# Altium schematic symbol library TI WEBENCH.SchLib: 92 symbols
Pins are listed as number, name and electrical type; pins without a type are passive.

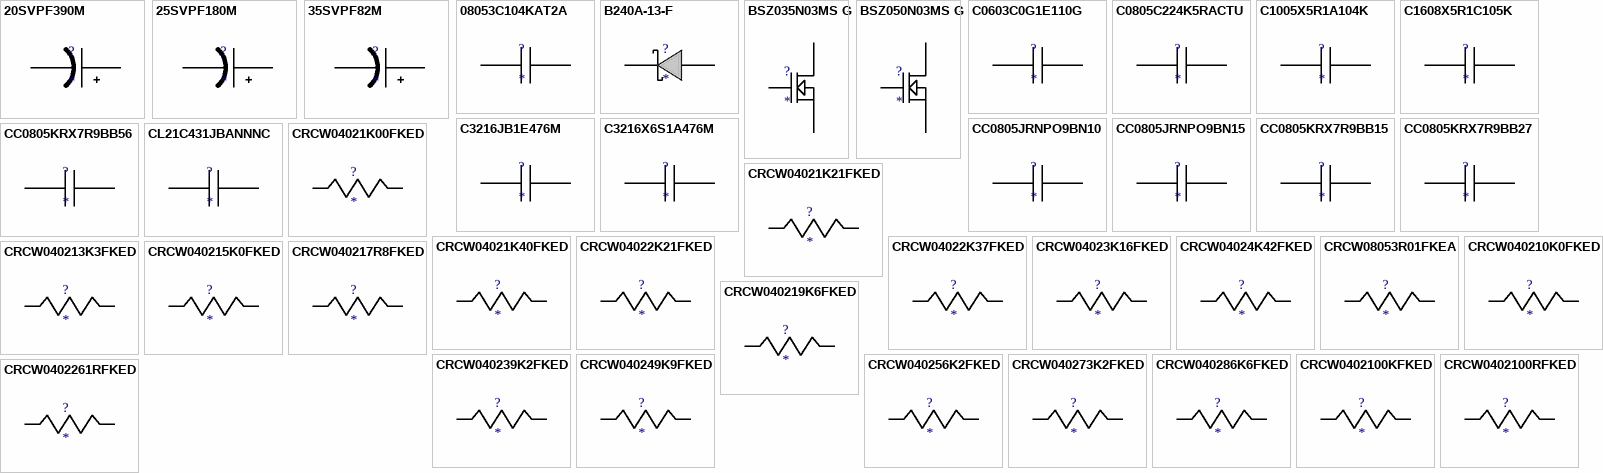
[diagram p0: symbols 20SVPF390M to CRCW0402261RFKED]

## 20SVPF390M
designator ?
Imported; Manufacturer_Part_Number: 20SVPF390M; Vendor: Panasonic; Manufacturer_Name: Panasonic; RefDes: RefDes; TYPE: TYPE; Value: Value
footprint CAPSMT_62_E12
pins: 1 +, 2 -

## 25SVPF180M
designator ?
Imported; Manufacturer_Part_Number: 25SVPF180M; Vendor: Panasonic; Manufacturer_Name: Panasonic; RefDes: RefDes; TYPE: TYPE; Value: Value
footprint CAPSMT_62_E12
pins: 1 +, 2 -

## 35SVPF82M
designator ?
Imported; Manufacturer_Part_Number: 35SVPF82M; Vendor: Panasonic; Manufacturer_Name: Panasonic; RefDes: RefDes; TYPE: TYPE; Value: Value
footprint CAPSMT_62_E12
pins: 1 +, 2 -

## 08053C104KAT2A
designator ?
Imported; Manufacturer_Part_Number: 08053C104KAT2A; Vendor: AVX; Manufacturer_Name: AVX; RefDes: RefDes; TYPE: TYPE; Value: Value
footprint 0805
pins: 1, 2

## B240A-13-F
designator ?
Imported; Manufacturer_Part_Number: B240A-13-F; Vendor: Diodes Inc.; Manufacturer_Name: Diodes Inc.; RefDes: RefDes; Type: Type; Value: Value
footprint SMA
pins: 1 K, 2 A

## BSZ035N03MS G
designator ?
Imported; Manufacturer_Part_Number: BSZ035N03MS G; Vendor: Infineon Technologies; Manufacturer_Name: Infineon Technologies; RefDes: RefDes; TYPE: TYPE; Value: Value
footprint PG-TSDSON-8
pins: 1 Source, 2 Source, 3 Source, 4 Gate, 5 Drain, 6 Drain, 7 Drain, 8 Drain, 9 Drain

## BSZ050N03MS G
designator ?
Imported; Manufacturer_Part_Number: BSZ050N03MS G; Vendor: Infineon Technologies; Manufacturer_Name: Infineon Technologies; RefDes: RefDes; TYPE: TYPE; Value: Value
footprint PG-TSDSON-8
pins: 1 Source, 2 Source, 3 Source, 4 Gate, 5 Drain, 6 Drain, 7 Drain, 8 Drain, 9 Drain

## C0603C0G1E110G
designator ?
Imported; Manufacturer_Part_Number: C0603C0G1E110G; Vendor: TDK; Manufacturer_Name: TDK; RefDes: RefDes; TYPE: TYPE; Value: Value
footprint 0201
pins: 1, 2

## C0805C224K5RACTU
designator ?
Imported; Manufacturer_Part_Number: C0805C224K5RACTU; Vendor: Kemet; Manufacturer_Name: Kemet; RefDes: RefDes; TYPE: TYPE; Value: Value
footprint 0805
pins: 1, 2

## C1005X5R1A104K
designator ?
Imported; Manufacturer_Part_Number: C1005X5R1A104K; Vendor: TDK; Manufacturer_Name: TDK; RefDes: RefDes; TYPE: TYPE; Value: Value
footprint 1005
pins: 1, 2

## C1608X5R1C105K
designator ?
Imported; Manufacturer_Part_Number: C1608X5R1C105K; Vendor: TDK; Manufacturer_Name: TDK; RefDes: RefDes; TYPE: TYPE; Value: Value
footprint 1608
pins: 1, 2

## C3216JB1E476M
designator ?
Imported; Manufacturer_Part_Number: C3216JB1E476M; Vendor: TDK; Manufacturer_Name: TDK; RefDes: RefDes; TYPE: TYPE; Value: Value
footprint 1206
pins: 1, 2

## C3216X6S1A476M
designator ?
Imported; Manufacturer_Part_Number: C3216X6S1A476M; Vendor: TDK; Manufacturer_Name: TDK; RefDes: RefDes; TYPE: TYPE; Value: Value
footprint 1206
pins: 1, 2

## CC0805JRNPO9BN10
designator ?
Imported; Manufacturer_Part_Number: CC0805JRNPO9BN101; Vendor: Yageo America; Manufacturer_Name: Yageo America; RefDes: RefDes; TYPE: TYPE; Value: Value
footprint 0805
pins: 1, 2

## CC0805JRNPO9BN15
designator ?
Imported; Manufacturer_Part_Number: CC0805JRNPO9BN151; Vendor: Yageo America; Manufacturer_Name: Yageo America; RefDes: RefDes; TYPE: TYPE; Value: Value
footprint 0805
pins: 1, 2

## CC0805KRX7R9BB15
designator ?
Imported; Manufacturer_Part_Number: CC0805KRX7R9BB153; Vendor: Yageo America; Manufacturer_Name: Yageo America; RefDes: RefDes; TYPE: TYPE; Value: Value
footprint 0805
pins: 1, 2

## CC0805KRX7R9BB27
designator ?
Imported; Manufacturer_Part_Number: CC0805KRX7R9BB272; Vendor: Yageo America; Manufacturer_Name: Yageo America; RefDes: RefDes; TYPE: TYPE; Value: Value
footprint 0805
pins: 1, 2

## CC0805KRX7R9BB56
designator ?
Imported; Manufacturer_Part_Number: CC0805KRX7R9BB561; Vendor: Yageo America; Manufacturer_Name: Yageo America; RefDes: RefDes; TYPE: TYPE; Value: Value
footprint 0805
pins: 1, 2

## CL21C431JBANNNC
designator ?
Imported; Manufacturer_Part_Number: CL21C431JBANNNC; Vendor: Samsung Electro-Mechanics; Manufacturer_Name: Samsung Electro-Mechanics; RefDes: RefDes; TYPE: TYPE; Value: Value
footprint 0805
pins: 1, 2

## CRCW04021K00FKED
designator ?
Imported; Manufacturer_Part_Number: CRCW04021K00FKED; Vendor: Vishay-Dale; Manufacturer_Name: Vishay-Dale; RefDes: RefDes; TYPE: TYPE; Value: Value
footprint 0402
pins: 1, 2

## CRCW04021K21FKED
designator ?
Imported; Manufacturer_Part_Number: CRCW04021K21FKED; Vendor: Vishay-Dale; Manufacturer_Name: Vishay-Dale; RefDes: RefDes; TYPE: TYPE; Value: Value
footprint 0402
pins: 1, 2

## CRCW04021K40FKED
designator ?
Imported; Manufacturer_Part_Number: CRCW04021K40FKED; Vendor: Vishay-Dale; Manufacturer_Name: Vishay-Dale; RefDes: RefDes; TYPE: TYPE; Value: Value
footprint 0402
pins: 1, 2

## CRCW04022K21FKED
designator ?
Imported; Manufacturer_Part_Number: CRCW04022K21FKED; Vendor: Vishay-Dale; Manufacturer_Name: Vishay-Dale; RefDes: RefDes; TYPE: TYPE; Value: Value
footprint 0402
pins: 1, 2

## CRCW04022K37FKED
designator ?
Imported; Manufacturer_Part_Number: CRCW04022K37FKED; Vendor: Vishay-Dale; Manufacturer_Name: Vishay-Dale; RefDes: RefDes; TYPE: TYPE; Value: Value
footprint 0402
pins: 1, 2

## CRCW04023K16FKED
designator ?
Imported; Manufacturer_Part_Number: CRCW04023K16FKED; Vendor: Vishay-Dale; Manufacturer_Name: Vishay-Dale; RefDes: RefDes; TYPE: TYPE; Value: Value
footprint 0402
pins: 1, 2

## CRCW04024K42FKED
designator ?
Imported; Manufacturer_Part_Number: CRCW04024K42FKED; Vendor: Vishay-Dale; Manufacturer_Name: Vishay-Dale; RefDes: RefDes; TYPE: TYPE; Value: Value
footprint 0402
pins: 1, 2

## CRCW08053R01FKEA
designator ?
Imported; Manufacturer_Part_Number: CRCW08053R01FKEA; Vendor: Vishay-Dale; Manufacturer_Name: Vishay-Dale; RefDes: RefDes; TYPE: TYPE; Value: Value
footprint 0805
pins: 1, 2

## CRCW040210K0FKED
designator ?
Imported; Manufacturer_Part_Number: CRCW040210K0FKED; Vendor: Vishay-Dale; Manufacturer_Name: Vishay-Dale; RefDes: RefDes; TYPE: TYPE; Value: Value
footprint 0402
pins: 1, 2

## CRCW040213K3FKED
designator ?
Imported; Manufacturer_Part_Number: CRCW040213K3FKED; Vendor: Vishay-Dale; Manufacturer_Name: Vishay-Dale; RefDes: RefDes; TYPE: TYPE; Value: Value
footprint 0402
pins: 1, 2

## CRCW040215K0FKED
designator ?
Imported; Manufacturer_Part_Number: CRCW040215K0FKED; Vendor: Vishay-Dale; Manufacturer_Name: Vishay-Dale; RefDes: RefDes; TYPE: TYPE; Value: Value
footprint 0402
pins: 1, 2

## CRCW040217R8FKED
designator ?
Imported; Manufacturer_Part_Number: CRCW040217R8FKED; Vendor: Vishay-Dale; Manufacturer_Name: Vishay-Dale; RefDes: RefDes; TYPE: TYPE; Value: Value
footprint 0402
pins: 1, 2

## CRCW040219K6FKED
designator ?
Imported; Manufacturer_Part_Number: CRCW040219K6FKED; Vendor: Vishay-Dale; Manufacturer_Name: Vishay-Dale; RefDes: RefDes; TYPE: TYPE; Value: Value
footprint 0402
pins: 1, 2

## CRCW040239K2FKED
designator ?
Imported; Manufacturer_Part_Number: CRCW040239K2FKED; Vendor: Vishay-Dale; Manufacturer_Name: Vishay-Dale; RefDes: RefDes; TYPE: TYPE; Value: Value
footprint 0402
pins: 1, 2

## CRCW040249K9FKED
designator ?
Imported; Manufacturer_Part_Number: CRCW040249K9FKED; Vendor: Vishay-Dale; Manufacturer_Name: Vishay-Dale; RefDes: RefDes; TYPE: TYPE; Value: Value
footprint 0402
pins: 1, 2

## CRCW040256K2FKED
designator ?
Imported; Manufacturer_Part_Number: CRCW040256K2FKED; Vendor: Vishay-Dale; Manufacturer_Name: Vishay-Dale; RefDes: RefDes; TYPE: TYPE; Value: Value
footprint 0402
pins: 1, 2

## CRCW040273K2FKED
designator ?
Imported; Manufacturer_Part_Number: CRCW040273K2FKED; Vendor: Vishay-Dale; Manufacturer_Name: Vishay-Dale; RefDes: RefDes; TYPE: TYPE; Value: Value
footprint 0402
pins: 1, 2

## CRCW040286K6FKED
designator ?
Imported; Manufacturer_Part_Number: CRCW040286K6FKED; Vendor: Vishay-Dale; Manufacturer_Name: Vishay-Dale; RefDes: RefDes; TYPE: TYPE; Value: Value
footprint 0402
pins: 1, 2

## CRCW0402100KFKED
designator ?
Imported; Manufacturer_Part_Number: CRCW0402100KFKED; Vendor: Vishay-Dale; Manufacturer_Name: Vishay-Dale; RefDes: RefDes; TYPE: TYPE; Value: Value
footprint 0402
pins: 1, 2

## CRCW0402100RFKED
designator ?
Imported; Manufacturer_Part_Number: CRCW0402100RFKED; Vendor: Vishay-Dale; Manufacturer_Name: Vishay-Dale; RefDes: RefDes; TYPE: TYPE; Value: Value
footprint 0402
pins: 1, 2

## CRCW0402261RFKED
designator ?
Imported; Manufacturer_Part_Number: CRCW0402261RFKED; Vendor: Vishay-Dale; Manufacturer_Name: Vishay-Dale; RefDes: RefDes; TYPE: TYPE; Value: Value
footprint 0402
pins: 1, 2

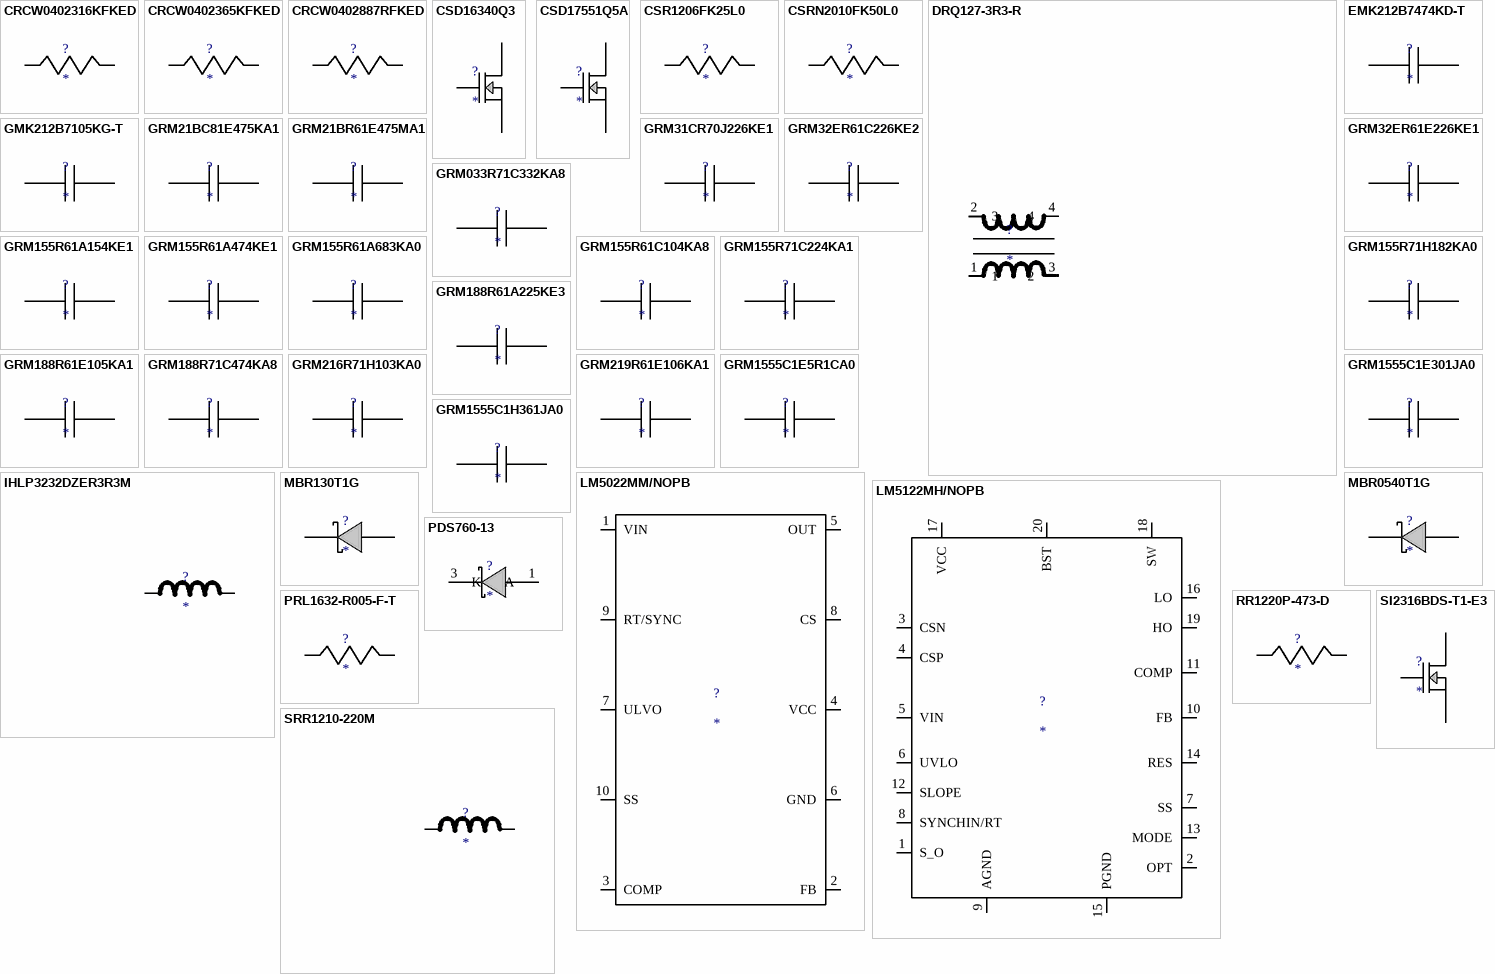
[diagram p1: symbols CRCW0402316KFKED to SRR1210-220M]

## CRCW0402316KFKED
designator ?
Imported; Manufacturer_Part_Number: CRCW0402316KFKED; Vendor: Vishay-Dale; Manufacturer_Name: Vishay-Dale; RefDes: RefDes; TYPE: TYPE; Value: Value
footprint 0402
pins: 1, 2

## CRCW0402365KFKED
designator ?
Imported; Manufacturer_Part_Number: CRCW0402365KFKED; Vendor: Vishay-Dale; Manufacturer_Name: Vishay-Dale; RefDes: RefDes; TYPE: TYPE; Value: Value
footprint 0402
pins: 1, 2

## CRCW0402887RFKED
designator ?
Imported; Manufacturer_Part_Number: CRCW0402887RFKED; Vendor: Vishay-Dale; Manufacturer_Name: Vishay-Dale; RefDes: RefDes; TYPE: TYPE; Value: Value
footprint 0402
pins: 1, 2

## CSD16340Q3
designator ?
Imported; Manufacturer_Part_Number: CSD16340Q3; Vendor: Texas Instruments; Manufacturer_Name: Texas Instruments; RefDes: RefDes; TYPE: TYPE; Value: Value
footprint TRANS_NexFET_Q3
pins: 1 Source, 2 Source, 3 Source, 4 Gate, 5 Drain, 6 Drain, 7 Drain, 8 Drain, 9 Drain

## CSD17551Q5A
designator ?
Imported; Manufacturer_Part_Number: CSD17551Q5A; Vendor: Texas Instruments; Manufacturer_Name: Texas Instruments; RefDes: RefDes; TYPE: TYPE; Value: Value
footprint TRANS_NexFET_Q5A
pins: 1 Source, 2 Source, 3 Source, 4 Gate, 5 Drain, 6 Drain, 7 Drain, 8 Drain, 9 Drain

## CSR1206FK25L0
designator ?
Imported; Manufacturer_Part_Number: CSR1206FK25L0; Vendor: Stackpole Electronics Inc; Manufacturer_Name: Stackpole Electronics Inc; RefDes: RefDes; TYPE: TYPE; Value: Value
footprint 1206
pins: 1, 2

## CSRN2010FK50L0
designator ?
Imported; Manufacturer_Part_Number: CSRN2010FK50L0; Vendor: Stackpole Electronics Inc; Manufacturer_Name: Stackpole Electronics Inc; RefDes: RefDes; TYPE: TYPE; Value: Value
footprint 2010
pins: 1, 2

## DRQ127-3R3-R
designator ?
Imported; Manufacturer_Part_Number: DRQ127-3R3-R; Vendor: Coiltronics; Type: SMT; Manufacturer_Name: Coiltronics; RefDes: RefDes; Value: Value
footprint DRQ127
pins: 1, 2 3, 3 2, 4

## EMK212B7474KD-T
designator ?
Imported; Manufacturer_Part_Number: EMK212B7474KD-T; Vendor: Taiyo Yuden; Manufacturer_Name: Taiyo Yuden; RefDes: RefDes; TYPE: TYPE; Value: Value
footprint 0805
pins: 1, 2

## GMK212B7105KG-T
designator ?
Imported; Manufacturer_Part_Number: GMK212B7105KG-T; Vendor: Taiyo Yuden; Manufacturer_Name: Taiyo Yuden; RefDes: RefDes; TYPE: TYPE; Value: Value
footprint 0805
pins: 1, 2

## GRM21BC81E475KA1
designator ?
Imported; Manufacturer_Part_Number: GRM21BC81E475KA12L; Vendor: MuRata; Manufacturer_Name: MuRata; RefDes: RefDes; TYPE: TYPE; Value: Value
footprint 0805
pins: 1, 2

## GRM21BR61E475MA1
designator ?
Imported; Manufacturer_Part_Number: GRM21BR61E475MA12L; Vendor: MuRata; Manufacturer_Name: MuRata; RefDes: RefDes; TYPE: TYPE; Value: Value
footprint 0805
pins: 1, 2

## GRM31CR70J226KE1
designator ?
Imported; Manufacturer_Part_Number: GRM31CR70J226KE19L; Vendor: MuRata; Manufacturer_Name: MuRata; RefDes: RefDes; TYPE: TYPE; Value: Value
footprint 1206
pins: 1, 2

## GRM32ER61C226KE2
designator ?
Imported; Manufacturer_Part_Number: GRM32ER61C226KE20L; Vendor: MuRata; Manufacturer_Name: MuRata; RefDes: RefDes; TYPE: TYPE; Value: Value
footprint 1210
pins: 1, 2

## GRM32ER61E226KE1
designator ?
Imported; Manufacturer_Part_Number: GRM32ER61E226KE15L; Vendor: MuRata; Manufacturer_Name: MuRata; RefDes: RefDes; TYPE: TYPE; Value: Value
footprint 1210
pins: 1, 2

## GRM033R71C332KA8
designator ?
Imported; Manufacturer_Part_Number: GRM033R71C332KA88D; Vendor: MuRata; Manufacturer_Name: MuRata; RefDes: RefDes; TYPE: TYPE; Value: Value
footprint 0201
pins: 1, 2

## GRM155R61A154KE1
designator ?
Imported; Manufacturer_Part_Number: GRM155R61A154KE19D; Vendor: MuRata; Manufacturer_Name: MuRata; RefDes: RefDes; TYPE: TYPE; Value: Value
footprint 0402
pins: 1, 2

## GRM155R61A474KE1
designator ?
Imported; Manufacturer_Part_Number: GRM155R61A474KE15D; Vendor: MuRata; Manufacturer_Name: MuRata; RefDes: RefDes; TYPE: TYPE; Value: Value
footprint 0402
pins: 1, 2

## GRM155R61A683KA0
designator ?
Imported; Manufacturer_Part_Number: GRM155R61A683KA01D; Vendor: MuRata; Manufacturer_Name: MuRata; RefDes: RefDes; TYPE: TYPE; Value: Value
footprint 0402
pins: 1, 2

## GRM155R61C104KA8
designator ?
Imported; Manufacturer_Part_Number: GRM155R61C104KA88D; Vendor: MuRata; Manufacturer_Name: MuRata; RefDes: RefDes; TYPE: TYPE; Value: Value
footprint 0402
pins: 1, 2

## GRM155R71C224KA1
designator ?
Imported; Manufacturer_Part_Number: GRM155R71C224KA12D; Vendor: MuRata; Manufacturer_Name: MuRata; RefDes: RefDes; TYPE: TYPE; Value: Value
footprint 0402
pins: 1, 2

## GRM155R71H182KA0
designator ?
Imported; Manufacturer_Part_Number: GRM155R71H182KA01D; Vendor: MuRata; Manufacturer_Name: MuRata; RefDes: RefDes; TYPE: TYPE; Value: Value
footprint 0402
pins: 1, 2

## GRM188R61A225KE3
designator ?
Imported; Manufacturer_Part_Number: GRM188R61A225KE34D; Vendor: MuRata; Manufacturer_Name: MuRata; RefDes: RefDes; TYPE: TYPE; Value: Value
footprint 0603
pins: 1, 2

## GRM188R61E105KA1
designator ?
Imported; Manufacturer_Part_Number: GRM188R61E105KA12D; Vendor: MuRata; Manufacturer_Name: MuRata; RefDes: RefDes; TYPE: TYPE; Value: Value
footprint 0603
pins: 1, 2

## GRM188R71C474KA8
designator ?
Imported; Manufacturer_Part_Number: GRM188R71C474KA88D; Vendor: MuRata; Manufacturer_Name: MuRata; RefDes: RefDes; TYPE: TYPE; Value: Value
footprint 0603
pins: 1, 2

## GRM216R71H103KA0
designator ?
Imported; Manufacturer_Part_Number: GRM216R71H103KA01D; Vendor: MuRata; Manufacturer_Name: MuRata; RefDes: RefDes; TYPE: TYPE; Value: Value
footprint 0805
pins: 1, 2

## GRM219R61E106KA1
designator ?
Imported; Manufacturer_Part_Number: GRM219R61E106KA12; Manufacturer_Name: MuRata; Vendor: Nichicon; RefDes: RefDes; TYPE: TYPE; Value: Value
footprint 0805
pins: 1, 2

## GRM1555C1E5R1CA0
designator ?
Imported; Manufacturer_Part_Number: GRM1555C1E5R1CA01D; Vendor: MuRata; Manufacturer_Name: MuRata; RefDes: RefDes; TYPE: TYPE; Value: Value
footprint 0402
pins: 1, 2

## GRM1555C1E301JA0
designator ?
Imported; Manufacturer_Part_Number: GRM1555C1E301JA01D; Vendor: MuRata; Manufacturer_Name: MuRata; RefDes: RefDes; TYPE: TYPE; Value: Value
footprint 0402
pins: 1, 2

## GRM1555C1H361JA0
designator ?
Imported; Manufacturer_Part_Number: GRM1555C1H361JA01D; Vendor: MuRata; Manufacturer_Name: MuRata; RefDes: RefDes; TYPE: TYPE; Value: Value
footprint 0402
pins: 1, 2

## IHLP3232DZER3R3M
designator ?
Imported; Manufacturer_Part_Number: IHLP3232DZER3R3M01; Manufacturer: Vishay; Vendor: Vishay-Dale; DESCRIPTION: Unknown; PACKAGE_DESIGNATOR: IHLP-3232DZ; Manufacturer_Name: Vishay-Dale; RefDes: RefDes; TYPE: TYPE; Value: Value
footprint IHLP-3232DZ
pins: 1, 2

## LM5022MM/NOPB
designator ?
Imported; Manufacturer_Part_Number: LM5022MM/NOPB; Vendor: Texas Instruments; Manufacturer_Name: Texas Instruments; RefDes: RefDes; TYPE: TYPE; Value: Value
footprint MUB10A
pins: 1 VIN, 2 FB, 3 COMP, 4 VCC, 5 OUT, 6 GND, 7 ULVO, 8 CS, 9 RT/SYNC, 10 SS

## LM5122MH/NOPB
designator ?
Imported; Manufacturer_Part_Number: LM5122MH/NOPB; Vendor: Texas Instruments; Manufacturer_Name: Texas Instruments; RefDes: RefDes; TYPE: TYPE; Value: Value
footprint MXA20A
pins: 1 S_O, 2 OPT, 3 CSN, 4 CSP, 5 VIN, 6 UVLO, 7 SS, 8 SYNCHIN/RT, 9 AGND, 10 FB, 11 COMP, 12 SLOPE, 13 MODE, 14 RES, 15 PGND, 16 LO, 17 VCC, 18 SW, 19 HO, 20 BST, 21 PGND

## MBR130T1G
designator ?
Imported; Manufacturer_Part_Number: MBR130T1G; Vendor: ON Semiconductor; Manufacturer_Name: ON Semiconductor; RefDes: RefDes; Type: Type; Value: Value
footprint SOD-123
pins: 1 K, 2 A

## MBR0540T1G
designator ?
Imported; Manufacturer_Part_Number: MBR0540T1G; Vendor: ON Semiconductor; Manufacturer_Name: ON Semiconductor; RefDes: RefDes; Type: Type; Value: Value
footprint SOD-123
pins: 1 K, 2 A

## PDS760-13
designator ?
Imported; Manufacturer_Part_Number: PDS760-13; Vendor: Diodes Inc.; Manufacturer_Name: Diodes Inc.; RefDes: RefDes; TYPE: TYPE; Value: Value
footprint PowerDI5
pins: 1 A, 2 A, 3 K

## PRL1632-R005-F-T
designator ?
Imported; Manufacturer_Part_Number: PRL1632-R005-F-T1; Vendor: Susumu Co Ltd; Manufacturer_Name: Susumu Co Ltd; RefDes: RefDes; TYPE: TYPE; Value: Value
footprint 1206
pins: 1, 2

## RR1220P-473-D
designator ?
Imported; Manufacturer_Part_Number: RR1220P-473-D; Vendor: Susumu Co Ltd; Manufacturer_Name: Susumu Co Ltd; RefDes: RefDes; TYPE: TYPE; Value: Value
footprint 0805
pins: 1, 2

## SI2316BDS-T1-E3
designator ?
Imported; Manufacturer_Part_Number: SI2316BDS-T1-E3; Vendor: Vishay-Siliconix; Manufacturer_Name: Vishay-Siliconix; RefDes: RefDes; TYPE: TYPE; Value: Value
footprint SOT-23
pins: 1 Gate, 2 Source, 3 Drain

## SRR1210-220M
designator ?
Imported; Manufacturer_Part_Number: SRR1210-220M; Vendor: Bourns; Manufacturer_Name: Bourns; RefDes: RefDes; TYPE: TYPE; Value: Value
footprint SRR1210
pins: 1, 2

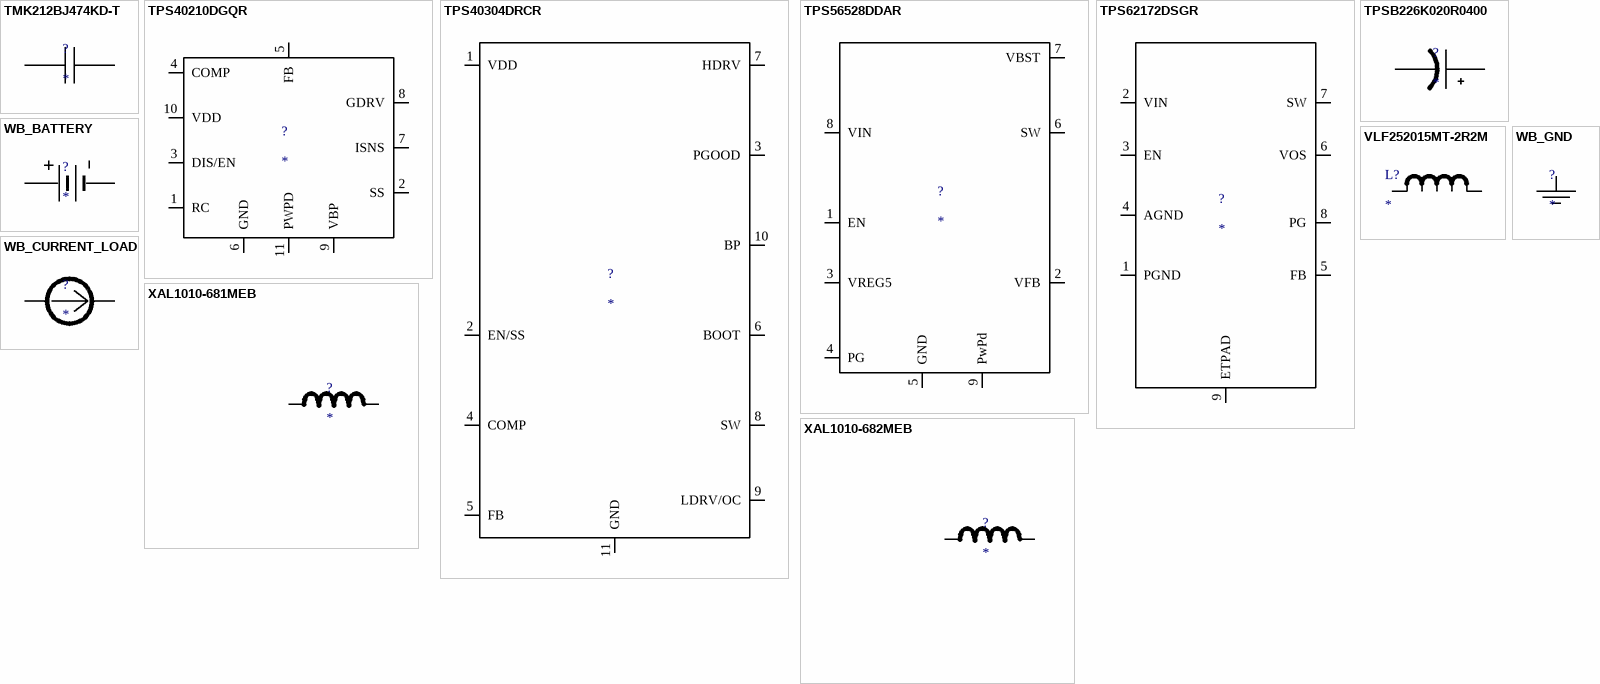
[diagram p2: symbols TMK212BJ474KD-T to XAL1010-682MEB]

## TMK212BJ474KD-T
designator ?
Imported; Manufacturer_Part_Number: TMK212BJ474KD-T; Vendor: Taiyo Yuden; Manufacturer_Name: Taiyo Yuden; RefDes: RefDes; TYPE: TYPE; Value: Value
footprint 0805
pins: 1, 2

## TPS40210DGQR
designator ?
Imported; Manufacturer_Part_Number: TPS40210DGQR; Vendor: Texas Instruments; Manufacturer_Name: Texas Instruments; RefDes: RefDes; TYPE: TYPE; Value: Value
footprint S-PDSO-G10
pins: 1 RC, 2 SS, 3 DIS/EN, 4 COMP, 5 FB, 6 GND, 7 ISNS, 8 GDRV, 9 VBP, 10 VDD, 11 PWPD

## TPS40304DRCR
designator ?
Imported; Manufacturer_Part_Number: TPS40304DRCR; Vendor: Texas Instruments; Manufacturer_Name: Texas Instruments; RefDes: RefDes; TYPE: TYPE; Value: Value
footprint S-PVSON-N10
pins: 1 VDD, 2 EN/SS, 3 PGOOD, 4 COMP, 5 FB, 6 BOOT, 7 HDRV, 8 SW, 9 LDRV/OC, 10 BP, 11 GND

## TPS56528DDAR
designator ?
Imported; Manufacturer_Part_Number: TPS56528DDAR; Vendor: Texas Instruments; Manufacturer_Name: Texas Instruments; RefDes: RefDes; TYPE: TYPE; Value: Value
footprint R-PDSO-G8
pins: 1 EN, 2 VFB, 3 VREG5, 4 PG, 5 GND, 6 SW, 7 VBST, 8 VIN, 9 PwPd

## TPS62172DSGR
designator ?
Imported; Manufacturer_Part_Number: TPS62172DSGR; Vendor: Texas Instruments; Manufacturer_Name: Texas Instruments; RefDes: RefDes; TYPE: TYPE; Value: Value
footprint S-PWSON-N8
pins: 1 PGND, 2 VIN, 3 EN, 4 AGND, 5 FB, 6 VOS, 7 SW, 8 PG, 9 ETPAD

## TPSB226K020R0400
designator ?
Imported; Manufacturer_Part_Number: TPSB226K020R0400; Vendor: AVX; Manufacturer_Name: AVX; RefDes: RefDes; TYPE: TYPE; Value: Value
footprint 3528-21
pins: 1 +, 2 -

## VLF252015MT-2R2M
designator L?
Imported; Manufacturer_Part_Number: 'VLF252015MT-2R2M'; Manufacturer_Name: TDK; Vendor: Gimme a name; Value: Value
footprint VLF252015MT
pins: 1, 2

## WB_BATTERY
designator ?
Imported; Manufacturer_Part_Number: WB_BATTERY; PowerPortType: POWER_GROUND; Value: Value; Manufacturer_Name: WB_BATTERY; RefDes: RefDes; TYPE: TYPE
pins: 1 +, 2 -

## WB_CURRENT_LOAD
designator ?
Imported; Manufacturer_Part_Number: WB_CURRENT_LOAD; PowerPortType: POWER_GROUND; Value: Value; Manufacturer_Name: WB_CURRENT_LOAD; RefDes: RefDes; TYPE: TYPE
pins: 1 +, 2 -

## WB_GND
designator ?
Imported; Manufacturer_Part_Number: WB_GND; PowerPortType: POWER_GROUND; Value: Value; Manufacturer_Name: WB_GND; RefDes: RefDes; TYPE: TYPE
pins: 1

## XAL1010-681MEB
designator ?
Imported; Manufacturer_Part_Number: XAL1010-451MEB; Vendor: Coilcraft; Manufacturer_Name: Coilcraft; RefDes: RefDes; TYPE: TYPE; Value: Value
footprint XAL1010
pins: 1, 2

## XAL1010-682MEB
designator ?
Imported; Manufacturer_Part_Number: XAL1010-682MEB; Vendor: Coilcraft; Manufacturer_Name: Coilcraft; RefDes: RefDes; TYPE: TYPE; Value: Value
footprint XAL1010
pins: 1, 2